# EAGLE library part XTSD04GLGEAG (library XTSD04GLGEAG)
Check availability <https://pricing.snapeda.com/parts/XTSD04GLGEAG/XTX/view-part?ref=eda>
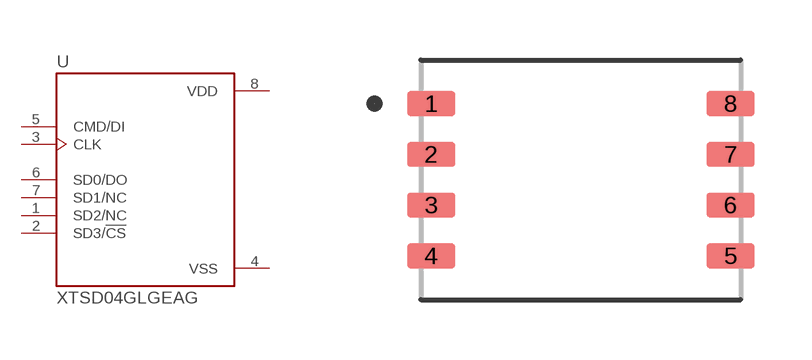
[diagram p0: symbol with the pads of SON127P600X800X95-8N; footprint SON127P600X800X95-8N]

Designator prefix U

## XTSD04GLGEAG (Availability: Not in stock; Check_prices: https://www.snapeda.com/parts/XTSD04GLGEAG/XTX/view-part/?ref=eda; Description: Flash Memory Card 4Gbit 2.7V to 3.6V SD Card 8-Pin LGA; MF: XTX; MP: XTSD04GLGEAG; Package: Package; Price: None; SnapEDA_Link: https://www.snapeda.com/parts/XTSD04GLGEAG/XTX/view-part/?ref=snap)  [SON127P600X800X95-8N]
1  SD2/NC
2  SD3/!CS
3  CLK  in
4  VSS  pwr
5  CMD/DI  in
6  SD0/DO
7  SD1/NC
8  VDD  pwr

## Footprint SON127P600X800X95-8N (pad centres in mm)
smd 1.21 x 0.62: 1 -3.745,1.905; 2 -3.745,0.635; 3 -3.745,-0.635; 4 -3.745,-1.905; 5 3.745,-1.905; 6 3.745,-0.635; 7 3.745,0.635; 8 3.745,1.905